# Altium footprint library LLP-8.PcbLib: 1 footprints
Each footprint in its own frame and in the unit in brackets; x right, y up, seen from the top. Pads: shape width x height; smd on the part's side, far side on the other; paste and mask are expansions set on the pad; w line width, h text height; cw(c..) or ccw(c..) is an arc to the next point about the centre after c.
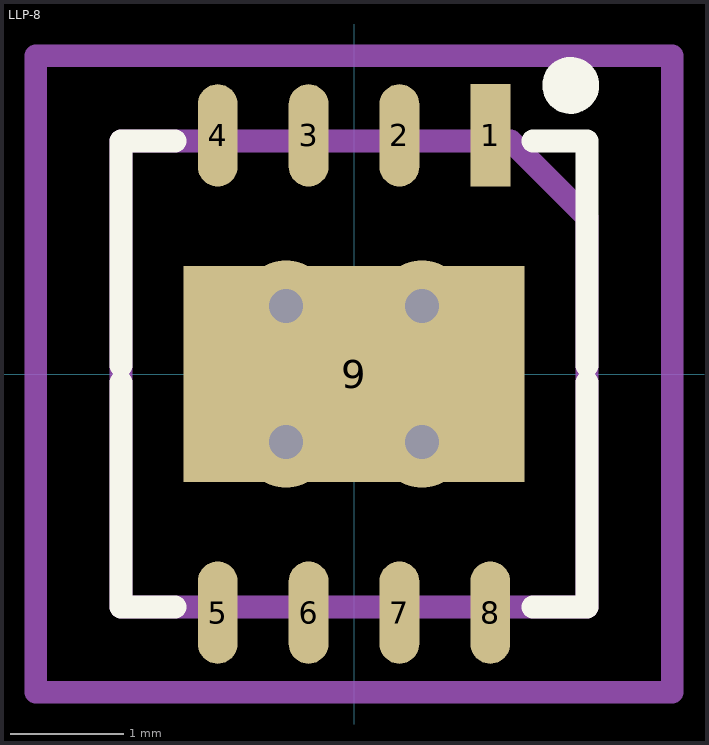
[diagram p0: the footprint, top view; thin cyan lines are the x and y axes]

## LLP-8 [mm] "QFN, 8-Leads, Body 4,1x4,1mm (max), Pitch 0,80mm, IPC Medium Density"
height 0.8
pads (9):
  rect 0.35x0.9 smd: 1(1.2,2.1)
  oval 0.35x0.9 smd: 2(0.4,2.1) 3(-0.4,2.1) 4(-1.2,2.1) 5(-1.2,-2.1) 6(-0.4,-2.1) 7(0.4,-2.1) 8(1.2,-2.1)
  rect 3x1.9 smd: 9(0,0)
via 0.6,-0.6 diameter 0.8 hole 0.3
via -0.6,-0.6 diameter 0.8 hole 0.3
via 0.6,0.6 diameter 0.8 hole 0.3
via -0.6,0.6 diameter 0.8 hole 0.3
Top Overlay:
  circle w0.25: c1.907,2.54 r0.125
  lines w0.2: -2.05,-0.075 -2.05,-2.05 -1.575,-2.05 ; -2.05,0.075 -2.05,2.05 -1.575,2.05 ; 1.575,-2.05 2.05,-2.05 2.05,-0.075 ; 1.575,2.05 2.05,2.05 2.05,0.075
Mechanical 13:
  lines w0.2: -2.05,-2.05 2.05,-2.05 2.05,1.379 1.379,2.05 -2.05,2.05 -2.05,-2.05
Mechanical 15:
  lines w0.2: -0.5,0 0.5,0 ; 0,-0.5 0,0.5 ; -2.8,-2.8 2.8,-2.8 2.8,2.8 -2.8,2.8 -2.8,-2.8
3D body: height 0.8, standoff 0.01, extent -2.05,-2.05 2.05,2.05